# Altium integrated library ISSI SRAM Asynchronous SRAM High Speed Low Power.IntLib: 413 symbols (part 17 of 21)
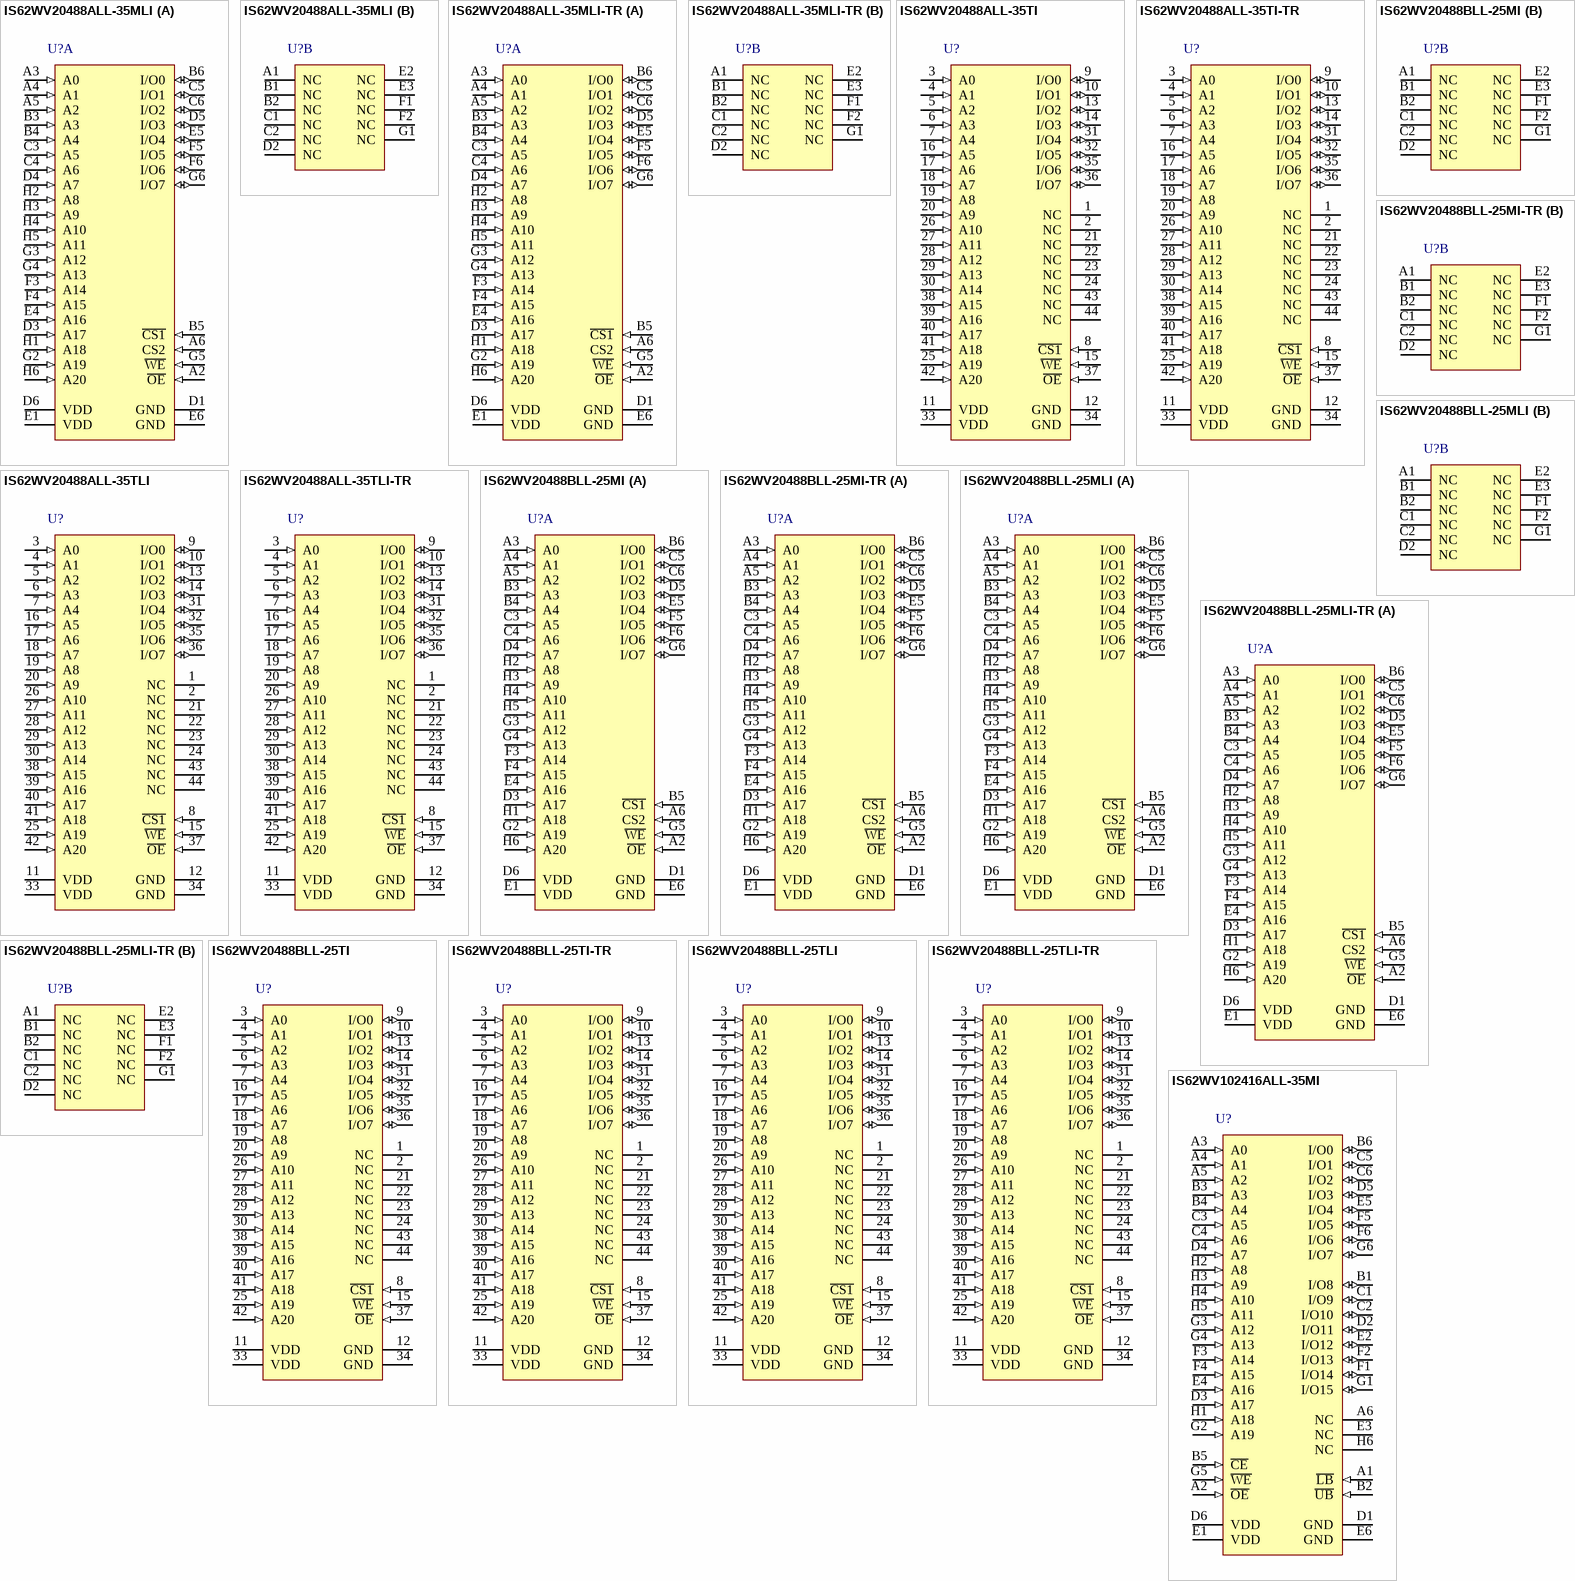
[diagram p44: symbols IS62WV20488ALL-35MLI to IS62WV102416ALL-35MI]

## IS62WV20488BLL-25TLI
designator U?
16 M High Speed Low Power CMOS SRAM, 2 M x 8, -40 to 85 degC, 44-Pin SOP (TSOP-2-44), Pb-Free; Manufacturer: Integrated Silicon Solution Inc (ISSI); PartNumber: IS62WV20488BLL-25TLI; Density: 16M; Organization: 2M x 8; Packing: Tray / Tube; Speed (ns): 25; DatasheetVersion: Rev. A; PackageVersion: Rev. F, 06/2008; PackageReference: TSOP-2-44; PackageDescription: 44-Pin 400 mil TSOP-2, Body 18.41 x 10.16 mm, Pitch 0.8 mm; Supplier 1: Digi-Key; Supplier Part Number 1: IS62WV20488BLL-25TLI-ND; Supplier 2: Mouser; Supplier Part Number 2: 870-62WV20488B25TLI; RoHS: Pb-Free; Mounting Technology: Surface Mount; ComponentLink1Description: Manufacturer URL; ComponentLink1URL: http://www.issi.com/US/index.shtml; ComponentLink2Description: Datasheet; ComponentLink2URL: http://www.issi.com/WW/pdf/62WV20488.pdf; ComponentLink3Description: Package Specification; ComponentLink3URL: http://www.issi.com/WW/pdf/61-64WV6416EEBLL.pdf
footprint ISSI-TSOP-2-44_N (SOP, 44-Leads, Body 18.5x10.3mm, Pitch 0.8mm, IPC Medium Density)
pins: 1 NC "No Connection", 2 NC "No Connection", 3 A0 (in) "Address Inputs", 4 A1 (in) "Address Inputs", 5 A2 (in) "Address Inputs", 6 A3 (in) "Address Inputs", 7 A4 (in) "Address Inputs", 8 ~{CS1} (in) "Chip Enable Input", 9 I/O0 (io) "Data Input / Output", 10 I/O1 (io) "Data Input / Output", 11 VDD (power) "Power", 12 GND (power) "Ground", 13 I/O2 (io) "Data Input / Output", 14 I/O3 (io) "Data Input / Output", 15 ~{WE} (in) "Write Enable Input", 16 A5 (in) "Address Inputs", 17 A6 (in) "Address Inputs", 18 A7 (in) "Address Inputs", 19 A8 (in) "Address Inputs", 20 A9 (in) "Address Inputs", 21 NC "No Connection", 22 NC "No Connection", 23 NC "No Connection", 24 NC "No Connection", 25 A19 (in) "Address Inputs", 26 A10 (in) "Address Inputs", 27 A11 (in) "Address Inputs", 28 A12 (in) "Address Inputs", 29 A13 (in) "Address Inputs", 30 A14 (in) "Address Inputs", 31 I/O4 (io) "Data Input / Output", 32 I/O5 (io) "Data Input / Output", 33 VDD (power) "Power", 34 GND (power) "Ground", 35 I/O6 (io) "Data Input / Output", 36 I/O7 (io) "Data Input / Output", 37 ~{OE} (in) "Output Enable Input", 38 A15 (in) "Address Inputs", 39 A16 (in) "Address Inputs", 40 A17 (in) "Address Inputs", 41 A18 (in) "Address Inputs", 42 A20 (in) "Address Inputs", 43 NC "No Connection", 44 NC "No Connection"

## IS62WV20488BLL-25TLI-TR
designator U?
16 M High Speed Low Power CMOS SRAM, 2 M x 8, -40 to 85 degC, 44-Pin SOP (TSOP-2-44), Pb-Free; Manufacturer: Integrated Silicon Solution Inc (ISSI); PartNumber: IS62WV20488BLL-25TLI-TR; Density: 16M; Organization: 2M x 8; Packing: Tape & Reel; Speed (ns): 25; DatasheetVersion: Rev. A; PackageVersion: Rev. F, 06/2008; PackageReference: TSOP-2-44; PackageDescription: 44-Pin 400 mil TSOP-2, Body 18.41 x 10.16 mm, Pitch 0.8 mm; Supplier 1: Digi-Key; Supplier Part Number 1: IS62WV20488BLL-25TLI-TR-ND; Supplier 2: Mouser; Supplier Part Number 2: 870-62WV20488B25TLIT; RoHS: Pb-Free; Mounting Technology: Surface Mount; ComponentLink1Description: Manufacturer URL; ComponentLink1URL: http://www.issi.com/US/index.shtml; ComponentLink2Description: Datasheet; ComponentLink2URL: http://www.issi.com/WW/pdf/62WV20488.pdf; ComponentLink3Description: Package Specification; ComponentLink3URL: http://www.issi.com/WW/pdf/61-64WV6416EEBLL.pdf
footprint ISSI-TSOP-2-44_N (SOP, 44-Leads, Body 18.5x10.3mm, Pitch 0.8mm, IPC Medium Density)
pins: 1 NC "No Connection", 2 NC "No Connection", 3 A0 (in) "Address Inputs", 4 A1 (in) "Address Inputs", 5 A2 (in) "Address Inputs", 6 A3 (in) "Address Inputs", 7 A4 (in) "Address Inputs", 8 ~{CS1} (in) "Chip Enable Input", 9 I/O0 (io) "Data Input / Output", 10 I/O1 (io) "Data Input / Output", 11 VDD (power) "Power", 12 GND (power) "Ground", 13 I/O2 (io) "Data Input / Output", 14 I/O3 (io) "Data Input / Output", 15 ~{WE} (in) "Write Enable Input", 16 A5 (in) "Address Inputs", 17 A6 (in) "Address Inputs", 18 A7 (in) "Address Inputs", 19 A8 (in) "Address Inputs", 20 A9 (in) "Address Inputs", 21 NC "No Connection", 22 NC "No Connection", 23 NC "No Connection", 24 NC "No Connection", 25 A19 (in) "Address Inputs", 26 A10 (in) "Address Inputs", 27 A11 (in) "Address Inputs", 28 A12 (in) "Address Inputs", 29 A13 (in) "Address Inputs", 30 A14 (in) "Address Inputs", 31 I/O4 (io) "Data Input / Output", 32 I/O5 (io) "Data Input / Output", 33 VDD (power) "Power", 34 GND (power) "Ground", 35 I/O6 (io) "Data Input / Output", 36 I/O7 (io) "Data Input / Output", 37 ~{OE} (in) "Output Enable Input", 38 A15 (in) "Address Inputs", 39 A16 (in) "Address Inputs", 40 A17 (in) "Address Inputs", 41 A18 (in) "Address Inputs", 42 A20 (in) "Address Inputs", 43 NC "No Connection", 44 NC "No Connection"

## IS62WV102416ALL-35MI
designator U?
16 M High Speed Low Power Asynchronous CMOS SRAM, 1 M x 16, -40 to 85 degC, 48-Pin BGA (TF-BGA-48); Manufacturer: Integrated Silicon Solution Inc (ISSI); PartNumber: IS62WV102416ALL-35MI; Density: 16M; Organization: 1M x 16; Packing: Tray / Tube; Speed (ns): 35; DatasheetVersion: Rev. A; PackageVersion: Rev. B, 08/2008; PackageReference: TF-BGA-48; PackageDescription: 48-Pin 9 x 11 mm TF-BGA, Pitch 0.75 mm; Mounting Technology: Surface Mount; Code_JEDEC: MO-207; ComponentLink1Description: Manufacturer URL; ComponentLink1URL: http://www.issi.com/US/index.shtml; ComponentLink2Description: Datasheet; ComponentLink2URL: http://www.issi.com/WW/pdf/62-65WV102416ALL-BLL.pdf; ComponentLink3Description: Package Specification; ComponentLink3URL: http://www.issi.com/WW/pdf/61-64WV51216.pdf
footprint ISSI-TF-BGA-48-9000x11000DE (BGA, 48-Balls, Body 11x9mm, Pitch 0.75mm)
pins: A1 ~{LB} (in) "Lower-byte Control (I/O0-I/O7)", A2 ~{OE} (in) "Output Enable Input", A3 A0 (in) "Address Input", A4 A1 (in) "Address Input", A5 A2 (in) "Address Input", A6 NC "No Connection", B1 I/O8 (io) "Data Inputs/Output", B2 ~{UB} (in) "Upper-byte Control (I/O8-I/O15)", B3 A3 (in) "Address Input", B4 A4 (in) "Address Input", B5 ~{CE} (in) "Chip Enable Input", B6 I/O0 (io) "Data Inputs/Output", C1 I/O9 (io) "Data Inputs/Output", C2 I/O10 (io) "Data Inputs/Output", C3 A5 (in) "Address Input", C4 A6 (in) "Address Input", C5 I/O1 (io) "Data Inputs/Output", C6 I/O2 (io) "Data Inputs/Output", D1 GND (power) "Ground", D2 I/O11 (io) "Data Inputs/Output", D3 A17 (in) "Address Input", D4 A7 (in) "Address Input", D5 I/O3 (io) "Data Inputs/Output", D6 VDD (power) "Power", E1 VDD (power) "Power", E2 I/O12 (io) "Data Inputs/Output", E3 NC "No Connection", E4 A16 (in) "Address Input", E5 I/O4 (io) "Data Inputs/Output", E6 GND (power) "Ground", F1 I/O14 (io) "Data Inputs/Output", F2 I/O13 (io) "Data Inputs/Output", F3 A14 (in) "Address Input", F4 A15 (in) "Address Input", F5 I/O5 (io) "Data Inputs/Output", F6 I/O6 (io) "Data Inputs/Output", G1 I/O15 (io) "Data Inputs/Output", G2 A19 (in) "Address Input", G3 A12 (in) "Address Input", G4 A13 (in) "Address Input", G5 ~{WE} (in) "Write Enable Input", G6 I/O7 (io) "Data Inputs/Output", H1 A18 (in) "Address Input", H2 A8 (in) "Address Input", H3 A9 (in) "Address Input", H4 A10 (in) "Address Input", H5 A11 (in) "Address Input", H6 NC "No Connection"

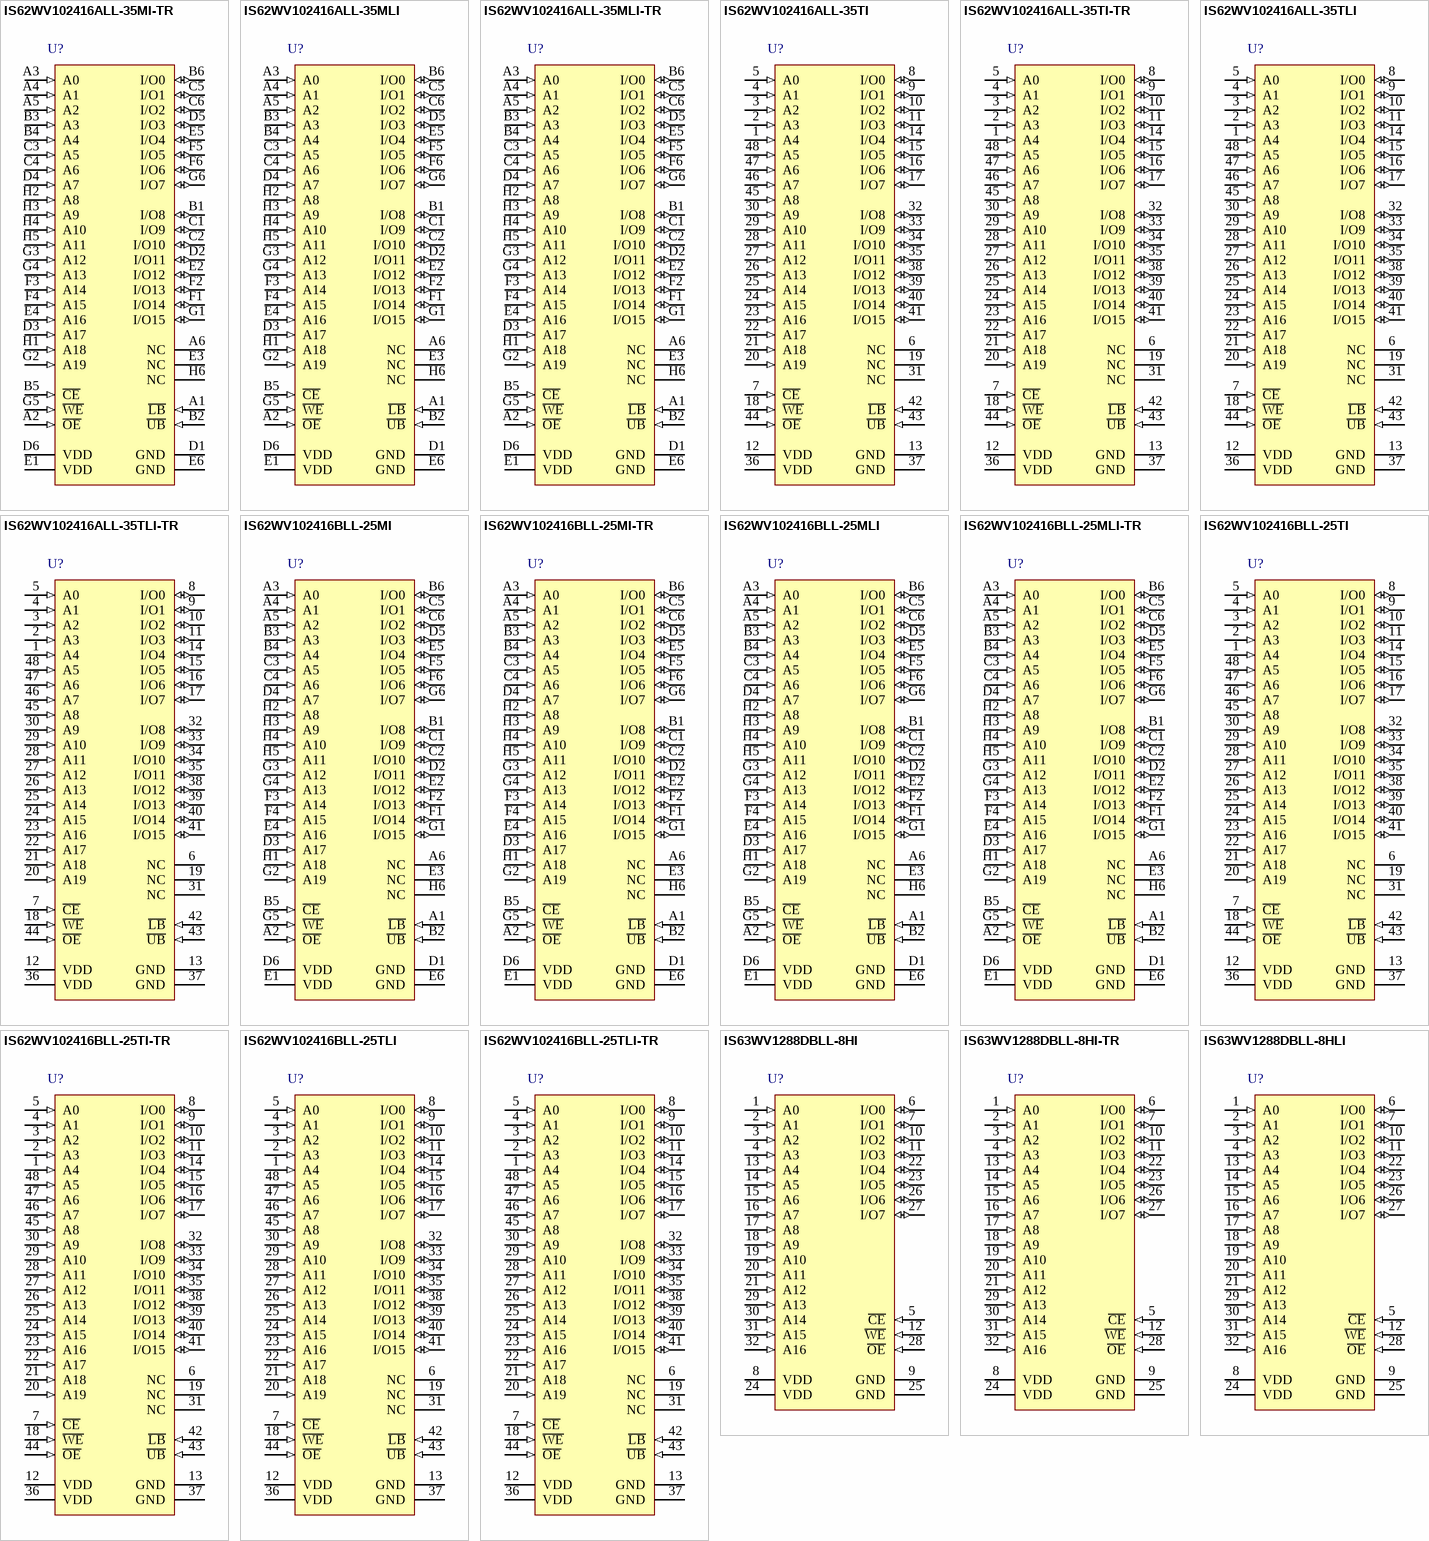
[diagram p23: symbols IS62WV102416ALL-35MI-TR to IS63WV1288DBLL-8HLI]

## IS62WV102416ALL-35MI-TR
designator U?
16 M High Speed Low Power Asynchronous CMOS SRAM, 1 M x 16, -40 to 85 degC, 48-Pin BGA (TF-BGA-48); Manufacturer: Integrated Silicon Solution Inc (ISSI); PartNumber: IS62WV102416ALL-35MI-TR; Density: 16M; Organization: 1M x 16; Packing: Tape & Reel; Speed (ns): 35; DatasheetVersion: Rev. A; PackageVersion: Rev. B, 08/2008; PackageReference: TF-BGA-48; PackageDescription: 48-Pin 9 x 11 mm TF-BGA, Pitch 0.75 mm; Mounting Technology: Surface Mount; Code_JEDEC: MO-207; ComponentLink1Description: Manufacturer URL; ComponentLink1URL: http://www.issi.com/US/index.shtml; ComponentLink2Description: Datasheet; ComponentLink2URL: http://www.issi.com/WW/pdf/62-65WV102416ALL-BLL.pdf; ComponentLink3Description: Package Specification; ComponentLink3URL: http://www.issi.com/WW/pdf/61-64WV51216.pdf
footprint ISSI-TF-BGA-48-9000x11000DE (BGA, 48-Balls, Body 11x9mm, Pitch 0.75mm)
pins: A1 ~{LB} (in) "Lower-byte Control (I/O0-I/O7)", A2 ~{OE} (in) "Output Enable Input", A3 A0 (in) "Address Input", A4 A1 (in) "Address Input", A5 A2 (in) "Address Input", A6 NC "No Connection", B1 I/O8 (io) "Data Inputs/Output", B2 ~{UB} (in) "Upper-byte Control (I/O8-I/O15)", B3 A3 (in) "Address Input", B4 A4 (in) "Address Input", B5 ~{CE} (in) "Chip Enable Input", B6 I/O0 (io) "Data Inputs/Output", C1 I/O9 (io) "Data Inputs/Output", C2 I/O10 (io) "Data Inputs/Output", C3 A5 (in) "Address Input", C4 A6 (in) "Address Input", C5 I/O1 (io) "Data Inputs/Output", C6 I/O2 (io) "Data Inputs/Output", D1 GND (power) "Ground", D2 I/O11 (io) "Data Inputs/Output", D3 A17 (in) "Address Input", D4 A7 (in) "Address Input", D5 I/O3 (io) "Data Inputs/Output", D6 VDD (power) "Power", E1 VDD (power) "Power", E2 I/O12 (io) "Data Inputs/Output", E3 NC "No Connection", E4 A16 (in) "Address Input", E5 I/O4 (io) "Data Inputs/Output", E6 GND (power) "Ground", F1 I/O14 (io) "Data Inputs/Output", F2 I/O13 (io) "Data Inputs/Output", F3 A14 (in) "Address Input", F4 A15 (in) "Address Input", F5 I/O5 (io) "Data Inputs/Output", F6 I/O6 (io) "Data Inputs/Output", G1 I/O15 (io) "Data Inputs/Output", G2 A19 (in) "Address Input", G3 A12 (in) "Address Input", G4 A13 (in) "Address Input", G5 ~{WE} (in) "Write Enable Input", G6 I/O7 (io) "Data Inputs/Output", H1 A18 (in) "Address Input", H2 A8 (in) "Address Input", H3 A9 (in) "Address Input", H4 A10 (in) "Address Input", H5 A11 (in) "Address Input", H6 NC "No Connection"

## IS62WV102416ALL-35MLI
designator U?
16 M High Speed Low Power Asynchronous CMOS SRAM, 1 M x 16, -40 to 85 degC, 48-Pin BGA (TF-BGA-48), Pb-Free; Manufacturer: Integrated Silicon Solution Inc (ISSI); PartNumber: IS62WV102416ALL-35MLI; Density: 16M; Organization: 1M x 16; Packing: Tray / Tube; Speed (ns): 35; DatasheetVersion: Rev. A; PackageVersion: Rev. B, 08/2008; PackageReference: TF-BGA-48; PackageDescription: 48-Pin 9 x 11 mm TF-BGA, Pitch 0.75 mm; Supplier 1: Digi-Key; Supplier Part Number 1: IS62WV102416ALL-35MLI-ND; Supplier 2: Newark; Supplier Part Number 2: 71R6402; Supplier 3: Mouser; Supplier Part Number 3: 870-62WV102416A35MLI; RoHS: Pb-Free; Mounting Technology: Surface Mount; Code_JEDEC: MO-207; ComponentLink1Description: Manufacturer URL; ComponentLink1URL: http://www.issi.com/US/index.shtml; ComponentLink2Description: Datasheet; ComponentLink2URL: http://www.issi.com/WW/pdf/62-65WV102416ALL-BLL.pdf; ComponentLink3Description: Package Specification; ComponentLink3URL: http://www.issi.com/WW/pdf/61-64WV51216.pdf
footprint ISSI-TF-BGA-48-9000x11000DE (BGA, 48-Balls, Body 11x9mm, Pitch 0.75mm)
pins: A1 ~{LB} (in) "Lower-byte Control (I/O0-I/O7)", A2 ~{OE} (in) "Output Enable Input", A3 A0 (in) "Address Input", A4 A1 (in) "Address Input", A5 A2 (in) "Address Input", A6 NC "No Connection", B1 I/O8 (io) "Data Inputs/Output", B2 ~{UB} (in) "Upper-byte Control (I/O8-I/O15)", B3 A3 (in) "Address Input", B4 A4 (in) "Address Input", B5 ~{CE} (in) "Chip Enable Input", B6 I/O0 (io) "Data Inputs/Output", C1 I/O9 (io) "Data Inputs/Output", C2 I/O10 (io) "Data Inputs/Output", C3 A5 (in) "Address Input", C4 A6 (in) "Address Input", C5 I/O1 (io) "Data Inputs/Output", C6 I/O2 (io) "Data Inputs/Output", D1 GND (power) "Ground", D2 I/O11 (io) "Data Inputs/Output", D3 A17 (in) "Address Input", D4 A7 (in) "Address Input", D5 I/O3 (io) "Data Inputs/Output", D6 VDD (power) "Power", E1 VDD (power) "Power", E2 I/O12 (io) "Data Inputs/Output", E3 NC "No Connection", E4 A16 (in) "Address Input", E5 I/O4 (io) "Data Inputs/Output", E6 GND (power) "Ground", F1 I/O14 (io) "Data Inputs/Output", F2 I/O13 (io) "Data Inputs/Output", F3 A14 (in) "Address Input", F4 A15 (in) "Address Input", F5 I/O5 (io) "Data Inputs/Output", F6 I/O6 (io) "Data Inputs/Output", G1 I/O15 (io) "Data Inputs/Output", G2 A19 (in) "Address Input", G3 A12 (in) "Address Input", G4 A13 (in) "Address Input", G5 ~{WE} (in) "Write Enable Input", G6 I/O7 (io) "Data Inputs/Output", H1 A18 (in) "Address Input", H2 A8 (in) "Address Input", H3 A9 (in) "Address Input", H4 A10 (in) "Address Input", H5 A11 (in) "Address Input", H6 NC "No Connection"

## IS62WV102416ALL-35MLI-TR
designator U?
16 M High Speed Low Power Asynchronous CMOS SRAM, 1 M x 16, -40 to 85 degC, 48-Pin BGA (TF-BGA-48), Pb-Free; Manufacturer: Integrated Silicon Solution Inc (ISSI); PartNumber: IS62WV102416ALL-35MLI-TR; Density: 16M; Organization: 1M x 16; Packing: Tape & Reel; Speed (ns): 35; DatasheetVersion: Rev. A; PackageVersion: Rev. B, 08/2008; PackageReference: TF-BGA-48; PackageDescription: 48-Pin 9 x 11 mm TF-BGA, Pitch 0.75 mm; Supplier 1: Digi-Key; Supplier Part Number 1: IS62WV102416ALL-35MLI-TR-ND; Supplier 2: Mouser; Supplier Part Number 2: 87062WV102416A35MLIT; RoHS: Pb-Free; Mounting Technology: Surface Mount; Code_JEDEC: MO-207; ComponentLink1Description: Manufacturer URL; ComponentLink1URL: http://www.issi.com/US/index.shtml; ComponentLink2Description: Datasheet; ComponentLink2URL: http://www.issi.com/WW/pdf/62-65WV102416ALL-BLL.pdf; ComponentLink3Description: Package Specification; ComponentLink3URL: http://www.issi.com/WW/pdf/61-64WV51216.pdf
footprint ISSI-TF-BGA-48-9000x11000DE (BGA, 48-Balls, Body 11x9mm, Pitch 0.75mm)
pins: A1 ~{LB} (in) "Lower-byte Control (I/O0-I/O7)", A2 ~{OE} (in) "Output Enable Input", A3 A0 (in) "Address Input", A4 A1 (in) "Address Input", A5 A2 (in) "Address Input", A6 NC "No Connection", B1 I/O8 (io) "Data Inputs/Output", B2 ~{UB} (in) "Upper-byte Control (I/O8-I/O15)", B3 A3 (in) "Address Input", B4 A4 (in) "Address Input", B5 ~{CE} (in) "Chip Enable Input", B6 I/O0 (io) "Data Inputs/Output", C1 I/O9 (io) "Data Inputs/Output", C2 I/O10 (io) "Data Inputs/Output", C3 A5 (in) "Address Input", C4 A6 (in) "Address Input", C5 I/O1 (io) "Data Inputs/Output", C6 I/O2 (io) "Data Inputs/Output", D1 GND (power) "Ground", D2 I/O11 (io) "Data Inputs/Output", D3 A17 (in) "Address Input", D4 A7 (in) "Address Input", D5 I/O3 (io) "Data Inputs/Output", D6 VDD (power) "Power", E1 VDD (power) "Power", E2 I/O12 (io) "Data Inputs/Output", E3 NC "No Connection", E4 A16 (in) "Address Input", E5 I/O4 (io) "Data Inputs/Output", E6 GND (power) "Ground", F1 I/O14 (io) "Data Inputs/Output", F2 I/O13 (io) "Data Inputs/Output", F3 A14 (in) "Address Input", F4 A15 (in) "Address Input", F5 I/O5 (io) "Data Inputs/Output", F6 I/O6 (io) "Data Inputs/Output", G1 I/O15 (io) "Data Inputs/Output", G2 A19 (in) "Address Input", G3 A12 (in) "Address Input", G4 A13 (in) "Address Input", G5 ~{WE} (in) "Write Enable Input", G6 I/O7 (io) "Data Inputs/Output", H1 A18 (in) "Address Input", H2 A8 (in) "Address Input", H3 A9 (in) "Address Input", H4 A10 (in) "Address Input", H5 A11 (in) "Address Input", H6 NC "No Connection"

## IS62WV102416ALL-35TI
designator U?
16 M High Speed Low Power Asynchronous CMOS SRAM, 1 M x 16, -40 to 85 degC, 48-Pin SOP (TSOP-1-48); Manufacturer: Integrated Silicon Solution Inc (ISSI); PartNumber: IS62WV102416ALL-35TI; Density: 16M; Organization: 1M x 16; Packing: Tray / Tube; Speed (ns): 35; DatasheetVersion: Rev. A; PackageVersion: Rev. B, 07/2006; PackageReference: TSOP-1-48; PackageDescription: 48-Pin 12 x 20 mm TSOP-1, Pitch 0.5 mm; Mounting Technology: Surface Mount; ComponentLink1Description: Manufacturer URL; ComponentLink1URL: http://www.issi.com/US/index.shtml; ComponentLink2Description: Datasheet; ComponentLink2URL: http://www.issi.com/WW/pdf/62-65WV102416ALL-BLL.pdf; ComponentLink3Description: Package Specification; ComponentLink3URL: http://www.issi.com/WW/pdf/61WV102416ALL.pdf
footprint ISSI-TSOP-1-48-12000X20000DE_N (SOP, 48-Leads, Body 18.6x12.2mm, Pitch 0.5mm, IPC Medium Density)
pins: 1 A4 (in) "Address Input", 2 A3 (in) "Address Input", 3 A2 (in) "Address Input", 4 A1 (in) "Address Input", 5 A0 (in) "Address Input", 6 NC "No Connection", 7 ~{CE} (in) "Chip Enable Input", 8 I/O0 (io) "Data Input/Output", 9 I/O1 (io) "Data Input/Output", 10 I/O2 (io) "Data Input/Output", 11 I/O3 (io) "Data Input/Output", 12 VDD (power) "Power", 13 GND (power) "Ground", 14 I/O4 (io) "Data Input/Output", 15 I/O5 (io) "Data Input/Output", 16 I/O6 (io) "Data Input/Output", 17 I/O7 (io) "Data Input/Output", 18 ~{WE} (in) "Write Enable Input", 19 NC "No Connection", 20 A19 (in) "Address Input", 21 A18 (in) "Address Input", 22 A17 (in) "Address Input", 23 A16 (in) "Address Input", 24 A15 (in) "Address Input", 25 A14 (in) "Address Input", 26 A13 (in) "Address Input", 27 A12 (in) "Address Input", 28 A11 (in) "Address Input", 29 A10 (in) "Address Input", 30 A9 (in) "Address Input", 31 NC "No Connection", 32 I/O8 (io) "Data Input/Output", 33 I/O9 (io) "Data Input/Output", 34 I/O10 (io) "Data Input/Output", 35 I/O11 (io) "Data Input/Output", 36 VDD (power) "Power", 37 GND (power) "Ground", 38 I/O12 (io) "Data Input/Output", 39 I/O13 (io) "Data Input/Output", 40 I/O14 (io) "Data Input/Output", 41 I/O15 (io) "Data Input/Output", 42 ~{LB} (in) "Lower-byte Control (I/O0-I/O7)", 43 ~{UB} (in) "Upper-byte Control (I/O8-I/O15)", 44 ~{OE} (in) "Output Enable Input", 45 A8 (in) "Address Input", 46 A7 (in) "Address Input", 47 A6 (in) "Address Input", 48 A5 (in) "Address Input"

## IS62WV102416ALL-35TI-TR
designator U?
16 M High Speed Low Power Asynchronous CMOS SRAM, 1 M x 16, -40 to 85 degC, 48-Pin SOP (TSOP-1-48); Manufacturer: Integrated Silicon Solution Inc (ISSI); PartNumber: IS62WV102416ALL-35TI-TR; Density: 16M; Organization: 1M x 16; Packing: Tape & Reel; Speed (ns): 35; DatasheetVersion: Rev. A; PackageVersion: Rev. B, 07/2006; PackageReference: TSOP-1-48; PackageDescription: 48-Pin 12 x 20 mm TSOP-1, Pitch 0.5 mm; Mounting Technology: Surface Mount; ComponentLink1Description: Manufacturer URL; ComponentLink1URL: http://www.issi.com/US/index.shtml; ComponentLink2Description: Datasheet; ComponentLink2URL: http://www.issi.com/WW/pdf/62-65WV102416ALL-BLL.pdf; ComponentLink3Description: Package Specification; ComponentLink3URL: http://www.issi.com/WW/pdf/61WV102416ALL.pdf
footprint ISSI-TSOP-1-48-12000X20000DE_N (SOP, 48-Leads, Body 18.6x12.2mm, Pitch 0.5mm, IPC Medium Density)
pins: 1 A4 (in) "Address Input", 2 A3 (in) "Address Input", 3 A2 (in) "Address Input", 4 A1 (in) "Address Input", 5 A0 (in) "Address Input", 6 NC "No Connection", 7 ~{CE} (in) "Chip Enable Input", 8 I/O0 (io) "Data Input/Output", 9 I/O1 (io) "Data Input/Output", 10 I/O2 (io) "Data Input/Output", 11 I/O3 (io) "Data Input/Output", 12 VDD (power) "Power", 13 GND (power) "Ground", 14 I/O4 (io) "Data Input/Output", 15 I/O5 (io) "Data Input/Output", 16 I/O6 (io) "Data Input/Output", 17 I/O7 (io) "Data Input/Output", 18 ~{WE} (in) "Write Enable Input", 19 NC "No Connection", 20 A19 (in) "Address Input", 21 A18 (in) "Address Input", 22 A17 (in) "Address Input", 23 A16 (in) "Address Input", 24 A15 (in) "Address Input", 25 A14 (in) "Address Input", 26 A13 (in) "Address Input", 27 A12 (in) "Address Input", 28 A11 (in) "Address Input", 29 A10 (in) "Address Input", 30 A9 (in) "Address Input", 31 NC "No Connection", 32 I/O8 (io) "Data Input/Output", 33 I/O9 (io) "Data Input/Output", 34 I/O10 (io) "Data Input/Output", 35 I/O11 (io) "Data Input/Output", 36 VDD (power) "Power", 37 GND (power) "Ground", 38 I/O12 (io) "Data Input/Output", 39 I/O13 (io) "Data Input/Output", 40 I/O14 (io) "Data Input/Output", 41 I/O15 (io) "Data Input/Output", 42 ~{LB} (in) "Lower-byte Control (I/O0-I/O7)", 43 ~{UB} (in) "Upper-byte Control (I/O8-I/O15)", 44 ~{OE} (in) "Output Enable Input", 45 A8 (in) "Address Input", 46 A7 (in) "Address Input", 47 A6 (in) "Address Input", 48 A5 (in) "Address Input"

## IS62WV102416ALL-35TLI
designator U?
16 M High Speed Low Power Asynchronous CMOS SRAM, 1 M x 16, -40 to 85 degC, 48-Pin SOP (TSOP-1-48), Pb-Free; Manufacturer: Integrated Silicon Solution Inc (ISSI); PartNumber: IS62WV102416ALL-35TLI; Density: 16M; Organization: 1M x 16; Packing: Tray / Tube; Speed (ns): 35; DatasheetVersion: Rev. A; PackageVersion: Rev. B, 07/2006; PackageReference: TSOP-1-48; PackageDescription: 48-Pin 12 x 20 mm TSOP-1, Pitch 0.5 mm; Supplier 1: Digi-Key; Supplier Part Number 1: IS62WV102416ALL-35TLI-ND; Supplier 2: Mouser; Supplier Part Number 2: 870-62WV102416A35TLI; RoHS: Pb-Free; Mounting Technology: Surface Mount; ComponentLink1Description: Manufacturer URL; ComponentLink1URL: http://www.issi.com/US/index.shtml; ComponentLink2Description: Datasheet; ComponentLink2URL: http://www.issi.com/WW/pdf/62-65WV102416ALL-BLL.pdf; ComponentLink3Description: Package Specification; ComponentLink3URL: http://www.issi.com/WW/pdf/61WV102416ALL.pdf
footprint ISSI-TSOP-1-48-12000X20000DE_N (SOP, 48-Leads, Body 18.6x12.2mm, Pitch 0.5mm, IPC Medium Density)
pins: 1 A4 (in) "Address Input", 2 A3 (in) "Address Input", 3 A2 (in) "Address Input", 4 A1 (in) "Address Input", 5 A0 (in) "Address Input", 6 NC "No Connection", 7 ~{CE} (in) "Chip Enable Input", 8 I/O0 (io) "Data Input/Output", 9 I/O1 (io) "Data Input/Output", 10 I/O2 (io) "Data Input/Output", 11 I/O3 (io) "Data Input/Output", 12 VDD (power) "Power", 13 GND (power) "Ground", 14 I/O4 (io) "Data Input/Output", 15 I/O5 (io) "Data Input/Output", 16 I/O6 (io) "Data Input/Output", 17 I/O7 (io) "Data Input/Output", 18 ~{WE} (in) "Write Enable Input", 19 NC "No Connection", 20 A19 (in) "Address Input", 21 A18 (in) "Address Input", 22 A17 (in) "Address Input", 23 A16 (in) "Address Input", 24 A15 (in) "Address Input", 25 A14 (in) "Address Input", 26 A13 (in) "Address Input", 27 A12 (in) "Address Input", 28 A11 (in) "Address Input", 29 A10 (in) "Address Input", 30 A9 (in) "Address Input", 31 NC "No Connection", 32 I/O8 (io) "Data Input/Output", 33 I/O9 (io) "Data Input/Output", 34 I/O10 (io) "Data Input/Output", 35 I/O11 (io) "Data Input/Output", 36 VDD (power) "Power", 37 GND (power) "Ground", 38 I/O12 (io) "Data Input/Output", 39 I/O13 (io) "Data Input/Output", 40 I/O14 (io) "Data Input/Output", 41 I/O15 (io) "Data Input/Output", 42 ~{LB} (in) "Lower-byte Control (I/O0-I/O7)", 43 ~{UB} (in) "Upper-byte Control (I/O8-I/O15)", 44 ~{OE} (in) "Output Enable Input", 45 A8 (in) "Address Input", 46 A7 (in) "Address Input", 47 A6 (in) "Address Input", 48 A5 (in) "Address Input"

## IS62WV102416ALL-35TLI-TR
designator U?
16 M High Speed Low Power Asynchronous CMOS SRAM, 1 M x 16, -40 to 85 degC, 48-Pin SOP (TSOP-1-48), Pb-Free; Manufacturer: Integrated Silicon Solution Inc (ISSI); PartNumber: IS62WV102416ALL-35TLI-TR; Density: 16M; Organization: 1M x 16; Packing: Tape & Reel; Speed (ns): 35; DatasheetVersion: Rev. A; PackageVersion: Rev. B, 07/2006; PackageReference: TSOP-1-48; PackageDescription: 48-Pin 12 x 20 mm TSOP-1, Pitch 0.5 mm; Supplier 1: Mouser; Supplier Part Number 1: 87062WV102416A35TLIT; RoHS: Pb-Free; Mounting Technology: Surface Mount; ComponentLink1Description: Manufacturer URL; ComponentLink1URL: http://www.issi.com/US/index.shtml; ComponentLink2Description: Datasheet; ComponentLink2URL: http://www.issi.com/WW/pdf/62-65WV102416ALL-BLL.pdf; ComponentLink3Description: Package Specification; ComponentLink3URL: http://www.issi.com/WW/pdf/61WV102416ALL.pdf
footprint ISSI-TSOP-1-48-12000X20000DE_N (SOP, 48-Leads, Body 18.6x12.2mm, Pitch 0.5mm, IPC Medium Density)
pins: 1 A4 (in) "Address Input", 2 A3 (in) "Address Input", 3 A2 (in) "Address Input", 4 A1 (in) "Address Input", 5 A0 (in) "Address Input", 6 NC "No Connection", 7 ~{CE} (in) "Chip Enable Input", 8 I/O0 (io) "Data Input/Output", 9 I/O1 (io) "Data Input/Output", 10 I/O2 (io) "Data Input/Output", 11 I/O3 (io) "Data Input/Output", 12 VDD (power) "Power", 13 GND (power) "Ground", 14 I/O4 (io) "Data Input/Output", 15 I/O5 (io) "Data Input/Output", 16 I/O6 (io) "Data Input/Output", 17 I/O7 (io) "Data Input/Output", 18 ~{WE} (in) "Write Enable Input", 19 NC "No Connection", 20 A19 (in) "Address Input", 21 A18 (in) "Address Input", 22 A17 (in) "Address Input", 23 A16 (in) "Address Input", 24 A15 (in) "Address Input", 25 A14 (in) "Address Input", 26 A13 (in) "Address Input", 27 A12 (in) "Address Input", 28 A11 (in) "Address Input", 29 A10 (in) "Address Input", 30 A9 (in) "Address Input", 31 NC "No Connection", 32 I/O8 (io) "Data Input/Output", 33 I/O9 (io) "Data Input/Output", 34 I/O10 (io) "Data Input/Output", 35 I/O11 (io) "Data Input/Output", 36 VDD (power) "Power", 37 GND (power) "Ground", 38 I/O12 (io) "Data Input/Output", 39 I/O13 (io) "Data Input/Output", 40 I/O14 (io) "Data Input/Output", 41 I/O15 (io) "Data Input/Output", 42 ~{LB} (in) "Lower-byte Control (I/O0-I/O7)", 43 ~{UB} (in) "Upper-byte Control (I/O8-I/O15)", 44 ~{OE} (in) "Output Enable Input", 45 A8 (in) "Address Input", 46 A7 (in) "Address Input", 47 A6 (in) "Address Input", 48 A5 (in) "Address Input"

## IS62WV102416BLL-25MI
designator U?
16 M High Speed Low Power Asynchronous CMOS SRAM, 1 M x 16, -40 to 85 degC, 48-Pin BGA (TF-BGA-48); Manufacturer: Integrated Silicon Solution Inc (ISSI); PartNumber: IS62WV102416BLL-25MI; Density: 16M; Organization: 1M x 16; Packing: Tray / Tube; Speed (ns): 25; DatasheetVersion: Rev. A; PackageVersion: Rev. B, 08/2008; PackageReference: TF-BGA-48; PackageDescription: 48-Pin 9 x 11 mm TF-BGA, Pitch 0.75 mm; Supplier 1: Newark; Supplier Part Number 1: 71R6406; Supplier 2: Mouser; Supplier Part Number 2: 870-62WV102416B25MI; Mounting Technology: Surface Mount; Code_JEDEC: MO-207; ComponentLink1Description: Manufacturer URL; ComponentLink1URL: http://www.issi.com/US/index.shtml; ComponentLink2Description: Datasheet; ComponentLink2URL: http://www.issi.com/WW/pdf/62-65WV102416ALL-BLL.pdf; ComponentLink3Description: Package Specification; ComponentLink3URL: http://www.issi.com/WW/pdf/61-64WV51216.pdf
footprint ISSI-TF-BGA-48-9000x11000DE (BGA, 48-Balls, Body 11x9mm, Pitch 0.75mm)
pins: A1 ~{LB} (in) "Lower-byte Control (I/O0-I/O7)", A2 ~{OE} (in) "Output Enable Input", A3 A0 (in) "Address Input", A4 A1 (in) "Address Input", A5 A2 (in) "Address Input", A6 NC "No Connection", B1 I/O8 (io) "Data Inputs/Output", B2 ~{UB} (in) "Upper-byte Control (I/O8-I/O15)", B3 A3 (in) "Address Input", B4 A4 (in) "Address Input", B5 ~{CE} (in) "Chip Enable Input", B6 I/O0 (io) "Data Inputs/Output", C1 I/O9 (io) "Data Inputs/Output", C2 I/O10 (io) "Data Inputs/Output", C3 A5 (in) "Address Input", C4 A6 (in) "Address Input", C5 I/O1 (io) "Data Inputs/Output", C6 I/O2 (io) "Data Inputs/Output", D1 GND (power) "Ground", D2 I/O11 (io) "Data Inputs/Output", D3 A17 (in) "Address Input", D4 A7 (in) "Address Input", D5 I/O3 (io) "Data Inputs/Output", D6 VDD (power) "Power", E1 VDD (power) "Power", E2 I/O12 (io) "Data Inputs/Output", E3 NC "No Connection", E4 A16 (in) "Address Input", E5 I/O4 (io) "Data Inputs/Output", E6 GND (power) "Ground", F1 I/O14 (io) "Data Inputs/Output", F2 I/O13 (io) "Data Inputs/Output", F3 A14 (in) "Address Input", F4 A15 (in) "Address Input", F5 I/O5 (io) "Data Inputs/Output", F6 I/O6 (io) "Data Inputs/Output", G1 I/O15 (io) "Data Inputs/Output", G2 A19 (in) "Address Input", G3 A12 (in) "Address Input", G4 A13 (in) "Address Input", G5 ~{WE} (in) "Write Enable Input", G6 I/O7 (io) "Data Inputs/Output", H1 A18 (in) "Address Input", H2 A8 (in) "Address Input", H3 A9 (in) "Address Input", H4 A10 (in) "Address Input", H5 A11 (in) "Address Input", H6 NC "No Connection"

## IS62WV102416BLL-25MI-TR
designator U?
16 M High Speed Low Power Asynchronous CMOS SRAM, 1 M x 16, -40 to 85 degC, 48-Pin BGA (TF-BGA-48); Manufacturer: Integrated Silicon Solution Inc (ISSI); PartNumber: IS62WV102416BLL-25MI-TR; Density: 16M; Organization: 1M x 16; Packing: Tape & Reel; Speed (ns): 25; DatasheetVersion: Rev. A; PackageVersion: Rev. B, 08/2008; PackageReference: TF-BGA-48; PackageDescription: 48-Pin 9 x 11 mm TF-BGA, Pitch 0.75 mm; Supplier 1: Mouser; Supplier Part Number 1: 870-62WV102416B25MIT; Mounting Technology: Surface Mount; Code_JEDEC: MO-207; ComponentLink1Description: Manufacturer URL; ComponentLink1URL: http://www.issi.com/US/index.shtml; ComponentLink2Description: Datasheet; ComponentLink2URL: http://www.issi.com/WW/pdf/62-65WV102416ALL-BLL.pdf; ComponentLink3Description: Package Specification; ComponentLink3URL: http://www.issi.com/WW/pdf/61-64WV51216.pdf
footprint ISSI-TF-BGA-48-9000x11000DE (BGA, 48-Balls, Body 11x9mm, Pitch 0.75mm)
pins: A1 ~{LB} (in) "Lower-byte Control (I/O0-I/O7)", A2 ~{OE} (in) "Output Enable Input", A3 A0 (in) "Address Input", A4 A1 (in) "Address Input", A5 A2 (in) "Address Input", A6 NC "No Connection", B1 I/O8 (io) "Data Inputs/Output", B2 ~{UB} (in) "Upper-byte Control (I/O8-I/O15)", B3 A3 (in) "Address Input", B4 A4 (in) "Address Input", B5 ~{CE} (in) "Chip Enable Input", B6 I/O0 (io) "Data Inputs/Output", C1 I/O9 (io) "Data Inputs/Output", C2 I/O10 (io) "Data Inputs/Output", C3 A5 (in) "Address Input", C4 A6 (in) "Address Input", C5 I/O1 (io) "Data Inputs/Output", C6 I/O2 (io) "Data Inputs/Output", D1 GND (power) "Ground", D2 I/O11 (io) "Data Inputs/Output", D3 A17 (in) "Address Input", D4 A7 (in) "Address Input", D5 I/O3 (io) "Data Inputs/Output", D6 VDD (power) "Power", E1 VDD (power) "Power", E2 I/O12 (io) "Data Inputs/Output", E3 NC "No Connection", E4 A16 (in) "Address Input", E5 I/O4 (io) "Data Inputs/Output", E6 GND (power) "Ground", F1 I/O14 (io) "Data Inputs/Output", F2 I/O13 (io) "Data Inputs/Output", F3 A14 (in) "Address Input", F4 A15 (in) "Address Input", F5 I/O5 (io) "Data Inputs/Output", F6 I/O6 (io) "Data Inputs/Output", G1 I/O15 (io) "Data Inputs/Output", G2 A19 (in) "Address Input", G3 A12 (in) "Address Input", G4 A13 (in) "Address Input", G5 ~{WE} (in) "Write Enable Input", G6 I/O7 (io) "Data Inputs/Output", H1 A18 (in) "Address Input", H2 A8 (in) "Address Input", H3 A9 (in) "Address Input", H4 A10 (in) "Address Input", H5 A11 (in) "Address Input", H6 NC "No Connection"

## IS62WV102416BLL-25MLI
designator U?
16 M High Speed Low Power Asynchronous CMOS SRAM, 1 M x 16, -40 to 85 degC, 48-Pin BGA (TF-BGA-48), Pb-Free; Manufacturer: Integrated Silicon Solution Inc (ISSI); PartNumber: IS62WV102416BLL-25MLI; Density: 16M; Organization: 1M x 16; Packing: Tray / Tube; Speed (ns): 25; DatasheetVersion: Rev. A; PackageVersion: Rev. B, 08/2008; PackageReference: TF-BGA-48; PackageDescription: 48-Pin 9 x 11 mm TF-BGA, Pitch 0.75 mm; Supplier 1: Digi-Key; Supplier Part Number 1: IS62WV102416BLL-25MLI-ND; Supplier 2: Mouser; Supplier Part Number 2: 870-62WV102416B25MLI; RoHS: Pb-Free; Mounting Technology: Surface Mount; Code_JEDEC: MO-207; ComponentLink1Description: Manufacturer URL; ComponentLink1URL: http://www.issi.com/US/index.shtml; ComponentLink2Description: Datasheet; ComponentLink2URL: http://www.issi.com/WW/pdf/62-65WV102416ALL-BLL.pdf; ComponentLink3Description: Package Specification; ComponentLink3URL: http://www.issi.com/WW/pdf/61-64WV51216.pdf
footprint ISSI-TF-BGA-48-9000x11000DE (BGA, 48-Balls, Body 11x9mm, Pitch 0.75mm)
pins: A1 ~{LB} (in) "Lower-byte Control (I/O0-I/O7)", A2 ~{OE} (in) "Output Enable Input", A3 A0 (in) "Address Input", A4 A1 (in) "Address Input", A5 A2 (in) "Address Input", A6 NC "No Connection", B1 I/O8 (io) "Data Inputs/Output", B2 ~{UB} (in) "Upper-byte Control (I/O8-I/O15)", B3 A3 (in) "Address Input", B4 A4 (in) "Address Input", B5 ~{CE} (in) "Chip Enable Input", B6 I/O0 (io) "Data Inputs/Output", C1 I/O9 (io) "Data Inputs/Output", C2 I/O10 (io) "Data Inputs/Output", C3 A5 (in) "Address Input", C4 A6 (in) "Address Input", C5 I/O1 (io) "Data Inputs/Output", C6 I/O2 (io) "Data Inputs/Output", D1 GND (power) "Ground", D2 I/O11 (io) "Data Inputs/Output", D3 A17 (in) "Address Input", D4 A7 (in) "Address Input", D5 I/O3 (io) "Data Inputs/Output", D6 VDD (power) "Power", E1 VDD (power) "Power", E2 I/O12 (io) "Data Inputs/Output", E3 NC "No Connection", E4 A16 (in) "Address Input", E5 I/O4 (io) "Data Inputs/Output", E6 GND (power) "Ground", F1 I/O14 (io) "Data Inputs/Output", F2 I/O13 (io) "Data Inputs/Output", F3 A14 (in) "Address Input", F4 A15 (in) "Address Input", F5 I/O5 (io) "Data Inputs/Output", F6 I/O6 (io) "Data Inputs/Output", G1 I/O15 (io) "Data Inputs/Output", G2 A19 (in) "Address Input", G3 A12 (in) "Address Input", G4 A13 (in) "Address Input", G5 ~{WE} (in) "Write Enable Input", G6 I/O7 (io) "Data Inputs/Output", H1 A18 (in) "Address Input", H2 A8 (in) "Address Input", H3 A9 (in) "Address Input", H4 A10 (in) "Address Input", H5 A11 (in) "Address Input", H6 NC "No Connection"

## IS62WV102416BLL-25MLI-TR
designator U?
16 M High Speed Low Power Asynchronous CMOS SRAM, 1 M x 16, -40 to 85 degC, 48-Pin BGA (TF-BGA-48), Pb-Free; Manufacturer: Integrated Silicon Solution Inc (ISSI); PartNumber: IS62WV102416BLL-25MLI-TR; Density: 16M; Organization: 1M x 16; Packing: Tape & Reel; Speed (ns): 25; DatasheetVersion: Rev. A; PackageVersion: Rev. B, 08/2008; PackageReference: TF-BGA-48; PackageDescription: 48-Pin 9 x 11 mm TF-BGA, Pitch 0.75 mm; Supplier 1: Digi-Key; Supplier Part Number 1: IS62WV102416BLL-25MLI-TR-ND; Supplier 2: Mouser; Supplier Part Number 2: 87062WV102416B25MLIT; RoHS: Pb-Free; Mounting Technology: Surface Mount; Code_JEDEC: MO-207; ComponentLink1Description: Manufacturer URL; ComponentLink1URL: http://www.issi.com/US/index.shtml; ComponentLink2Description: Datasheet; ComponentLink2URL: http://www.issi.com/WW/pdf/62-65WV102416ALL-BLL.pdf; ComponentLink3Description: Package Specification; ComponentLink3URL: http://www.issi.com/WW/pdf/61-64WV51216.pdf
footprint ISSI-TF-BGA-48-9000x11000DE (BGA, 48-Balls, Body 11x9mm, Pitch 0.75mm)
pins: A1 ~{LB} (in) "Lower-byte Control (I/O0-I/O7)", A2 ~{OE} (in) "Output Enable Input", A3 A0 (in) "Address Input", A4 A1 (in) "Address Input", A5 A2 (in) "Address Input", A6 NC "No Connection", B1 I/O8 (io) "Data Inputs/Output", B2 ~{UB} (in) "Upper-byte Control (I/O8-I/O15)", B3 A3 (in) "Address Input", B4 A4 (in) "Address Input", B5 ~{CE} (in) "Chip Enable Input", B6 I/O0 (io) "Data Inputs/Output", C1 I/O9 (io) "Data Inputs/Output", C2 I/O10 (io) "Data Inputs/Output", C3 A5 (in) "Address Input", C4 A6 (in) "Address Input", C5 I/O1 (io) "Data Inputs/Output", C6 I/O2 (io) "Data Inputs/Output", D1 GND (power) "Ground", D2 I/O11 (io) "Data Inputs/Output", D3 A17 (in) "Address Input", D4 A7 (in) "Address Input", D5 I/O3 (io) "Data Inputs/Output", D6 VDD (power) "Power", E1 VDD (power) "Power", E2 I/O12 (io) "Data Inputs/Output", E3 NC "No Connection", E4 A16 (in) "Address Input", E5 I/O4 (io) "Data Inputs/Output", E6 GND (power) "Ground", F1 I/O14 (io) "Data Inputs/Output", F2 I/O13 (io) "Data Inputs/Output", F3 A14 (in) "Address Input", F4 A15 (in) "Address Input", F5 I/O5 (io) "Data Inputs/Output", F6 I/O6 (io) "Data Inputs/Output", G1 I/O15 (io) "Data Inputs/Output", G2 A19 (in) "Address Input", G3 A12 (in) "Address Input", G4 A13 (in) "Address Input", G5 ~{WE} (in) "Write Enable Input", G6 I/O7 (io) "Data Inputs/Output", H1 A18 (in) "Address Input", H2 A8 (in) "Address Input", H3 A9 (in) "Address Input", H4 A10 (in) "Address Input", H5 A11 (in) "Address Input", H6 NC "No Connection"

## IS62WV102416BLL-25TI
designator U?
16 M High Speed Low Power Asynchronous CMOS SRAM, 1 M x 16, -40 to 85 degC, 48-Pin SOP (TSOP-1-48); Manufacturer: Integrated Silicon Solution Inc (ISSI); PartNumber: IS62WV102416BLL-25TI; Density: 16M; Organization: 1M x 16; Packing: Tray / Tube; Speed (ns): 25; DatasheetVersion: Rev. A; PackageVersion: Rev. B, 07/2006; PackageReference: TSOP-1-48; PackageDescription: 48-Pin 12 x 20 mm TSOP-1, Pitch 0.5 mm; Mounting Technology: Surface Mount; ComponentLink1Description: Manufacturer URL; ComponentLink1URL: http://www.issi.com/US/index.shtml; ComponentLink2Description: Datasheet; ComponentLink2URL: http://www.issi.com/WW/pdf/62-65WV102416ALL-BLL.pdf; ComponentLink3Description: Package Specification; ComponentLink3URL: http://www.issi.com/WW/pdf/61WV102416ALL.pdf
footprint ISSI-TSOP-1-48-12000X20000DE_N (SOP, 48-Leads, Body 18.6x12.2mm, Pitch 0.5mm, IPC Medium Density)
pins: 1 A4 (in) "Address Input", 2 A3 (in) "Address Input", 3 A2 (in) "Address Input", 4 A1 (in) "Address Input", 5 A0 (in) "Address Input", 6 NC "No Connection", 7 ~{CE} (in) "Chip Enable Input", 8 I/O0 (io) "Data Input/Output", 9 I/O1 (io) "Data Input/Output", 10 I/O2 (io) "Data Input/Output", 11 I/O3 (io) "Data Input/Output", 12 VDD (power) "Power", 13 GND (power) "Ground", 14 I/O4 (io) "Data Input/Output", 15 I/O5 (io) "Data Input/Output", 16 I/O6 (io) "Data Input/Output", 17 I/O7 (io) "Data Input/Output", 18 ~{WE} (in) "Write Enable Input", 19 NC "No Connection", 20 A19 (in) "Address Input", 21 A18 (in) "Address Input", 22 A17 (in) "Address Input", 23 A16 (in) "Address Input", 24 A15 (in) "Address Input", 25 A14 (in) "Address Input", 26 A13 (in) "Address Input", 27 A12 (in) "Address Input", 28 A11 (in) "Address Input", 29 A10 (in) "Address Input", 30 A9 (in) "Address Input", 31 NC "No Connection", 32 I/O8 (io) "Data Input/Output", 33 I/O9 (io) "Data Input/Output", 34 I/O10 (io) "Data Input/Output", 35 I/O11 (io) "Data Input/Output", 36 VDD (power) "Power", 37 GND (power) "Ground", 38 I/O12 (io) "Data Input/Output", 39 I/O13 (io) "Data Input/Output", 40 I/O14 (io) "Data Input/Output", 41 I/O15 (io) "Data Input/Output", 42 ~{LB} (in) "Lower-byte Control (I/O0-I/O7)", 43 ~{UB} (in) "Upper-byte Control (I/O8-I/O15)", 44 ~{OE} (in) "Output Enable Input", 45 A8 (in) "Address Input", 46 A7 (in) "Address Input", 47 A6 (in) "Address Input", 48 A5 (in) "Address Input"

## IS62WV102416BLL-25TI-TR
designator U?
16 M High Speed Low Power Asynchronous CMOS SRAM, 1 M x 16, -40 to 85 degC, 48-Pin SOP (TSOP-1-48); Manufacturer: Integrated Silicon Solution Inc (ISSI); PartNumber: IS62WV102416BLL-25TI-TR; Density: 16M; Organization: 1M x 16; Packing: Tape & Reel; Speed (ns): 25; DatasheetVersion: Rev. A; PackageVersion: Rev. B, 07/2006; PackageReference: TSOP-1-48; PackageDescription: 48-Pin 12 x 20 mm TSOP-1, Pitch 0.5 mm; Mounting Technology: Surface Mount; ComponentLink1Description: Manufacturer URL; ComponentLink1URL: http://www.issi.com/US/index.shtml; ComponentLink2Description: Datasheet; ComponentLink2URL: http://www.issi.com/WW/pdf/62-65WV102416ALL-BLL.pdf; ComponentLink3Description: Package Specification; ComponentLink3URL: http://www.issi.com/WW/pdf/61WV102416ALL.pdf
footprint ISSI-TSOP-1-48-12000X20000DE_N (SOP, 48-Leads, Body 18.6x12.2mm, Pitch 0.5mm, IPC Medium Density)
pins: 1 A4 (in) "Address Input", 2 A3 (in) "Address Input", 3 A2 (in) "Address Input", 4 A1 (in) "Address Input", 5 A0 (in) "Address Input", 6 NC "No Connection", 7 ~{CE} (in) "Chip Enable Input", 8 I/O0 (io) "Data Input/Output", 9 I/O1 (io) "Data Input/Output", 10 I/O2 (io) "Data Input/Output", 11 I/O3 (io) "Data Input/Output", 12 VDD (power) "Power", 13 GND (power) "Ground", 14 I/O4 (io) "Data Input/Output", 15 I/O5 (io) "Data Input/Output", 16 I/O6 (io) "Data Input/Output", 17 I/O7 (io) "Data Input/Output", 18 ~{WE} (in) "Write Enable Input", 19 NC "No Connection", 20 A19 (in) "Address Input", 21 A18 (in) "Address Input", 22 A17 (in) "Address Input", 23 A16 (in) "Address Input", 24 A15 (in) "Address Input", 25 A14 (in) "Address Input", 26 A13 (in) "Address Input", 27 A12 (in) "Address Input", 28 A11 (in) "Address Input", 29 A10 (in) "Address Input", 30 A9 (in) "Address Input", 31 NC "No Connection", 32 I/O8 (io) "Data Input/Output", 33 I/O9 (io) "Data Input/Output", 34 I/O10 (io) "Data Input/Output", 35 I/O11 (io) "Data Input/Output", 36 VDD (power) "Power", 37 GND (power) "Ground", 38 I/O12 (io) "Data Input/Output", 39 I/O13 (io) "Data Input/Output", 40 I/O14 (io) "Data Input/Output", 41 I/O15 (io) "Data Input/Output", 42 ~{LB} (in) "Lower-byte Control (I/O0-I/O7)", 43 ~{UB} (in) "Upper-byte Control (I/O8-I/O15)", 44 ~{OE} (in) "Output Enable Input", 45 A8 (in) "Address Input", 46 A7 (in) "Address Input", 47 A6 (in) "Address Input", 48 A5 (in) "Address Input"

## IS62WV102416BLL-25TLI
designator U?
16 M High Speed Low Power Asynchronous CMOS SRAM, 1 M x 16, -40 to 85 degC, 48-Pin SOP (TSOP-1-48), Pb-Free; Manufacturer: Integrated Silicon Solution Inc (ISSI); PartNumber: IS62WV102416BLL-25TLI; Density: 16M; Organization: 1M x 16; Packing: Tray / Tube; Speed (ns): 25; DatasheetVersion: Rev. A; PackageVersion: Rev. B, 07/2006; PackageReference: TSOP-1-48; PackageDescription: 48-Pin 12 x 20 mm TSOP-1, Pitch 0.5 mm; Supplier 1: Digi-Key; Supplier Part Number 1: IS62WV102416BLL-25TLI-ND; Supplier 2: Newark; Supplier Part Number 2: 95M6354; Supplier 3: Mouser; Supplier Part Number 3: 870-62WV102416B25TLI; RoHS: Pb-Free; Mounting Technology: Surface Mount; ComponentLink1Description: Manufacturer URL; ComponentLink1URL: http://www.issi.com/US/index.shtml; ComponentLink2Description: Datasheet; ComponentLink2URL: http://www.issi.com/WW/pdf/62-65WV102416ALL-BLL.pdf; ComponentLink3Description: Package Specification; ComponentLink3URL: http://www.issi.com/WW/pdf/61WV102416ALL.pdf
footprint ISSI-TSOP-1-48-12000X20000DE_N (SOP, 48-Leads, Body 18.6x12.2mm, Pitch 0.5mm, IPC Medium Density)
pins: 1 A4 (in) "Address Input", 2 A3 (in) "Address Input", 3 A2 (in) "Address Input", 4 A1 (in) "Address Input", 5 A0 (in) "Address Input", 6 NC "No Connection", 7 ~{CE} (in) "Chip Enable Input", 8 I/O0 (io) "Data Input/Output", 9 I/O1 (io) "Data Input/Output", 10 I/O2 (io) "Data Input/Output", 11 I/O3 (io) "Data Input/Output", 12 VDD (power) "Power", 13 GND (power) "Ground", 14 I/O4 (io) "Data Input/Output", 15 I/O5 (io) "Data Input/Output", 16 I/O6 (io) "Data Input/Output", 17 I/O7 (io) "Data Input/Output", 18 ~{WE} (in) "Write Enable Input", 19 NC "No Connection", 20 A19 (in) "Address Input", 21 A18 (in) "Address Input", 22 A17 (in) "Address Input", 23 A16 (in) "Address Input", 24 A15 (in) "Address Input", 25 A14 (in) "Address Input", 26 A13 (in) "Address Input", 27 A12 (in) "Address Input", 28 A11 (in) "Address Input", 29 A10 (in) "Address Input", 30 A9 (in) "Address Input", 31 NC "No Connection", 32 I/O8 (io) "Data Input/Output", 33 I/O9 (io) "Data Input/Output", 34 I/O10 (io) "Data Input/Output", 35 I/O11 (io) "Data Input/Output", 36 VDD (power) "Power", 37 GND (power) "Ground", 38 I/O12 (io) "Data Input/Output", 39 I/O13 (io) "Data Input/Output", 40 I/O14 (io) "Data Input/Output", 41 I/O15 (io) "Data Input/Output", 42 ~{LB} (in) "Lower-byte Control (I/O0-I/O7)", 43 ~{UB} (in) "Upper-byte Control (I/O8-I/O15)", 44 ~{OE} (in) "Output Enable Input", 45 A8 (in) "Address Input", 46 A7 (in) "Address Input", 47 A6 (in) "Address Input", 48 A5 (in) "Address Input"

## IS62WV102416BLL-25TLI-TR
designator U?
16 M High Speed Low Power Asynchronous CMOS SRAM, 1 M x 16, -40 to 85 degC, 48-Pin SOP (TSOP-1-48), Pb-Free; Manufacturer: Integrated Silicon Solution Inc (ISSI); PartNumber: IS62WV102416BLL-25TLI-TR; Density: 16M; Organization: 1M x 16; Packing: Tape & Reel; Speed (ns): 25; DatasheetVersion: Rev. A; PackageVersion: Rev. B, 07/2006; PackageReference: TSOP-1-48; PackageDescription: 48-Pin 12 x 20 mm TSOP-1, Pitch 0.5 mm; Supplier 1: Digi-Key; Supplier Part Number 1: IS62WV102416BLL-25TLI-TR-ND; Supplier 2: Mouser; Supplier Part Number 2: 87062WV102416B25TLIT; RoHS: Pb-Free; Mounting Technology: Surface Mount; ComponentLink1Description: Manufacturer URL; ComponentLink1URL: http://www.issi.com/US/index.shtml; ComponentLink2Description: Datasheet; ComponentLink2URL: http://www.issi.com/WW/pdf/62-65WV102416ALL-BLL.pdf; ComponentLink3Description: Package Specification; ComponentLink3URL: http://www.issi.com/WW/pdf/61WV102416ALL.pdf
footprint ISSI-TSOP-1-48-12000X20000DE_N (SOP, 48-Leads, Body 18.6x12.2mm, Pitch 0.5mm, IPC Medium Density)
pins: 1 A4 (in) "Address Input", 2 A3 (in) "Address Input", 3 A2 (in) "Address Input", 4 A1 (in) "Address Input", 5 A0 (in) "Address Input", 6 NC "No Connection", 7 ~{CE} (in) "Chip Enable Input", 8 I/O0 (io) "Data Input/Output", 9 I/O1 (io) "Data Input/Output", 10 I/O2 (io) "Data Input/Output", 11 I/O3 (io) "Data Input/Output", 12 VDD (power) "Power", 13 GND (power) "Ground", 14 I/O4 (io) "Data Input/Output", 15 I/O5 (io) "Data Input/Output", 16 I/O6 (io) "Data Input/Output", 17 I/O7 (io) "Data Input/Output", 18 ~{WE} (in) "Write Enable Input", 19 NC "No Connection", 20 A19 (in) "Address Input", 21 A18 (in) "Address Input", 22 A17 (in) "Address Input", 23 A16 (in) "Address Input", 24 A15 (in) "Address Input", 25 A14 (in) "Address Input", 26 A13 (in) "Address Input", 27 A12 (in) "Address Input", 28 A11 (in) "Address Input", 29 A10 (in) "Address Input", 30 A9 (in) "Address Input", 31 NC "No Connection", 32 I/O8 (io) "Data Input/Output", 33 I/O9 (io) "Data Input/Output", 34 I/O10 (io) "Data Input/Output", 35 I/O11 (io) "Data Input/Output", 36 VDD (power) "Power", 37 GND (power) "Ground", 38 I/O12 (io) "Data Input/Output", 39 I/O13 (io) "Data Input/Output", 40 I/O14 (io) "Data Input/Output", 41 I/O15 (io) "Data Input/Output", 42 ~{LB} (in) "Lower-byte Control (I/O0-I/O7)", 43 ~{UB} (in) "Upper-byte Control (I/O8-I/O15)", 44 ~{OE} (in) "Output Enable Input", 45 A8 (in) "Address Input", 46 A7 (in) "Address Input", 47 A6 (in) "Address Input", 48 A5 (in) "Address Input"

## IS63WV1288DBLL-8HI
designator U?
1 M High Speed CMOS SRAM, 128 K x 8, -40 to 85 degC, 32-Pin SOP (TSOP-1-32); Manufacturer: Integrated Silicon Solution Inc (ISSI); PartNumber: IS63WV1288DBLL-8HI; Organization: 128K x 8; Packing: Tray / Tube; Speed (ns): 8; DatasheetVersion: Rev. B; PackageVersion: Rev. B, 04/2003; PackageReference: TSOP-1-32; PackageDescription: 32-Pin 8.00 x 13.4 mm TSOP-1, Pitch 0.5 mm; Mounting Technology: Surface Mount; ComponentLink1Description: Manufacturer URL; ComponentLink1URL: http://www.issi.com/US/index.shtml; ComponentLink2Description: Datasheet; ComponentLink2URL: http://www.issi.com/WW/pdf/63-64WV1288DALL-DBLL.pdf; ComponentLink3Description: Package Specification; ComponentLink3URL: http://www.issi.com/WW/pdf/61-64C1024AL.pdf
footprint ISSI-TSOP-1-32-8000x13400DE_N (SOP, 32-Leads, Body 11.9x8.1mm, Pitch 0.5mm, IPC Medium Density)
pins: 1 A0 (in) "Address Input", 2 A1 (in) "Address Input", 3 A2 (in) "Address Input", 4 A3 (in) "Address Input", 5 ~{CE} (in) "Chip Enable Input", 6 I/O0 (io) "Bidirectional Port", 7 I/O1 (io) "Bidirectional Port", 8 VDD (power) "Power", 9 GND (power) "Ground", 10 I/O2 (io) "Bidirectional Port", 11 I/O3 (io) "Bidirectional Port", 12 ~{WE} (in) "Write Enable Input", 13 A4 (in) "Address Input", 14 A5 (in) "Address Input", 15 A6 (in) "Address Input", 16 A7 (in) "Address Input", 17 A8 (in) "Address Input", 18 A9 (in) "Address Input", 19 A10 (in) "Address Input", 20 A11 (in) "Address Input", 21 A12 (in) "Address Input", 22 I/O4 (io) "Bidirectional Port", 23 I/O5 (io) "Bidirectional Port", 24 VDD (power) "Power", 25 GND (power) "Ground", 26 I/O6 (io) "Bidirectional Port", 27 I/O7 (io) "Bidirectional Port", 28 ~{OE} (in) "Output Enable Input", 29 A13 (in) "Address Input", 30 A14 (in) "Address Input", 31 A15 (in) "Address Input", 32 A16 (in) "Address Input"

## IS63WV1288DBLL-8HI-TR
designator U?
1 M High Speed CMOS SRAM, 128 K x 8, -40 to 85 degC, 32-Pin SOP (TSOP-1-32); Manufacturer: Integrated Silicon Solution Inc (ISSI); PartNumber: IS63WV1288DBLL-8HI-TR; Organization: 128K x 8; Packing: Tape & Reel; Speed (ns): 8; DatasheetVersion: Rev. B; PackageVersion: Rev. B, 04/2003; PackageReference: TSOP-1-32; PackageDescription: 32-Pin 8.00 x 13.4 mm TSOP-1, Pitch 0.5 mm; Mounting Technology: Surface Mount; ComponentLink1Description: Manufacturer URL; ComponentLink1URL: http://www.issi.com/US/index.shtml; ComponentLink2Description: Datasheet; ComponentLink2URL: http://www.issi.com/WW/pdf/63-64WV1288DALL-DBLL.pdf; ComponentLink3Description: Package Specification; ComponentLink3URL: http://www.issi.com/WW/pdf/61-64C1024AL.pdf
footprint ISSI-TSOP-1-32-8000x13400DE_N (SOP, 32-Leads, Body 11.9x8.1mm, Pitch 0.5mm, IPC Medium Density)
pins: 1 A0 (in) "Address Input", 2 A1 (in) "Address Input", 3 A2 (in) "Address Input", 4 A3 (in) "Address Input", 5 ~{CE} (in) "Chip Enable Input", 6 I/O0 (io) "Bidirectional Port", 7 I/O1 (io) "Bidirectional Port", 8 VDD (power) "Power", 9 GND (power) "Ground", 10 I/O2 (io) "Bidirectional Port", 11 I/O3 (io) "Bidirectional Port", 12 ~{WE} (in) "Write Enable Input", 13 A4 (in) "Address Input", 14 A5 (in) "Address Input", 15 A6 (in) "Address Input", 16 A7 (in) "Address Input", 17 A8 (in) "Address Input", 18 A9 (in) "Address Input", 19 A10 (in) "Address Input", 20 A11 (in) "Address Input", 21 A12 (in) "Address Input", 22 I/O4 (io) "Bidirectional Port", 23 I/O5 (io) "Bidirectional Port", 24 VDD (power) "Power", 25 GND (power) "Ground", 26 I/O6 (io) "Bidirectional Port", 27 I/O7 (io) "Bidirectional Port", 28 ~{OE} (in) "Output Enable Input", 29 A13 (in) "Address Input", 30 A14 (in) "Address Input", 31 A15 (in) "Address Input", 32 A16 (in) "Address Input"